# Altium footprint library syhaunguyen.PcbLib: 329 footprints (part 16 of 21)
Each footprint in its own frame and in the unit in brackets; x right, y up, seen from the top. Pads: shape width x height; smd on the part's side, far side on the other; paste and mask are expansions set on the pad; w line width, h text height; cw(c..) or ccw(c..) is an arc to the next point about the centre after c.
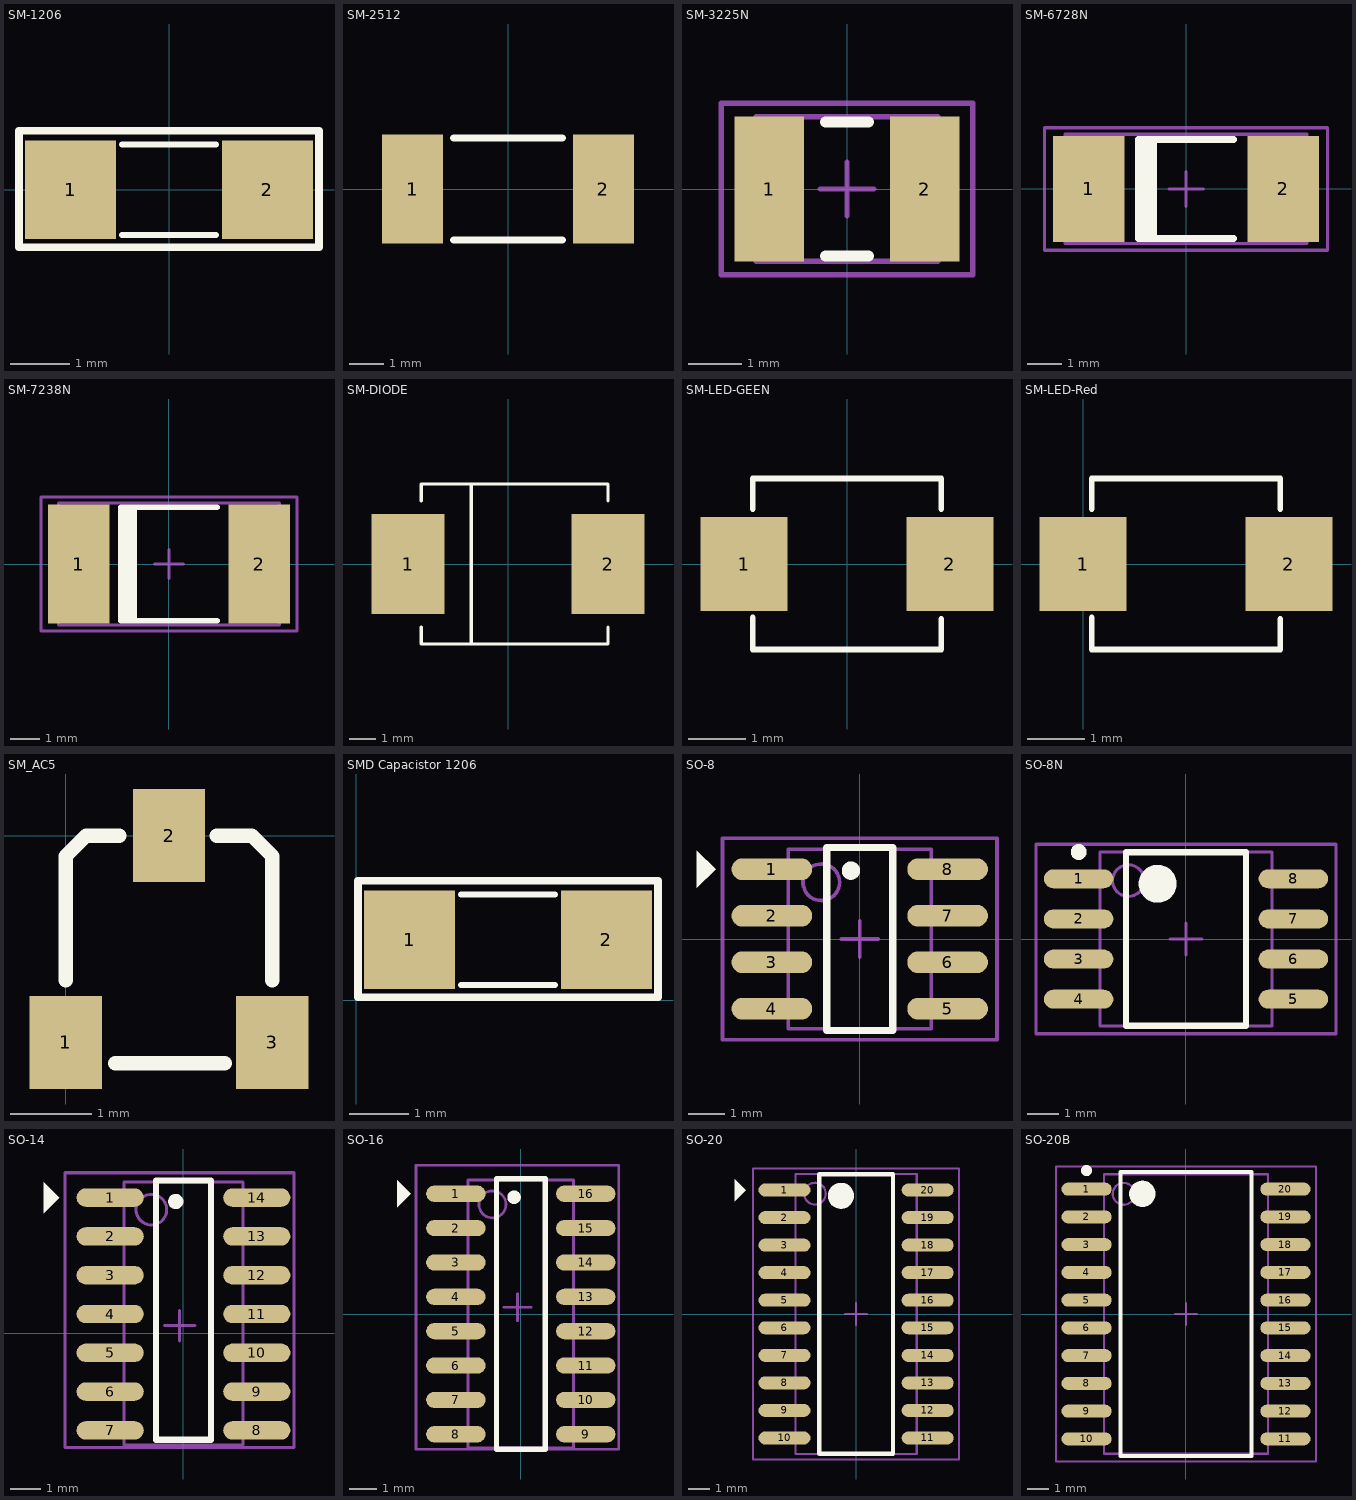
[diagram p15: the footprints below, top view; thin cyan lines are the x and y axes]

## SM-1206 [mil] "Compoment SMD 120x60mil"
height 50
pads (2):
  rect 60x65 smd: 1(-65,0) 2(65,0)
Top Overlay:
  lines w4: -31,-30 31,-30 ; -31,30 31,30
  lines w5: -99,-38 -99,39 99,39 99,-38 -99,-38
3D body: height 24.79, standoff 0, extent -82.68,-35 82.68,35.87

## SM-2512 [mm] "Chip Resistor; Body 6.3 x 3.2 mm (LxW typ) - C"
height 0.6
pads (2):
  rect 1.8x3.2 smd: 1(-2.8,0) 2(2.8,0)
Top Overlay:
  lines w0.2: -1.6,-1.5 1.6,-1.5 ; -1.6,1.5 1.6,1.5

## SM-3225N [mm] "Chip Capacitor, Body 3.2x2.5mm, IPC Medium Density"
height 1.35
pads (2):
  rect 1.3x2.7 smd: 1(-1.45,0) 2(1.45,0)
Top Overlay:
  lines w0.2: -0.4,-1.25 0.4,-1.25 ; -0.4,1.25 0.4,1.25
Mechanical 13:
  lines w0.1: -1.7,-1.35 -1.7,1.35 1.7,1.35 1.7,-1.35 -1.7,-1.35
Mechanical 15:
  lines w0.1: -0.5,0 0.5,0 ; 0,-0.5 0,0.5 ; -2.35,-1.6 -2.35,1.6 2.35,1.6 2.35,-1.6 -2.35,-1.6
3D body: height 1.35, standoff 0, extent -1.7,-1.35 1.7,1.35

## SM-6728N [mm] "Chip Capacitor, Body 6.7x2.8mm, IPC Medium Density"
height 3.18
pads (2):
  rect 2.1x3.1 smd: 1(-2.85,0) 2(2.85,0)
Top Overlay:
  rectangle: -1.4,-1.45 -0.85,1.45
  lines w0.2: 1.4,-1.45 -1.4,-1.45 -1.4,1.45 1.4,1.45
Mechanical 13:
  lines w0.1: -3.55,-1.6 -3.55,1.6 3.55,1.6 3.55,-1.6 -3.55,-1.6
Mechanical 15:
  lines w0.1: -0.5,0 0.5,0 ; 0,-0.5 0,0.5 ; -4.15,-1.8 -4.15,1.8 4.15,1.8 4.15,-1.8 -4.15,-1.8
3D body: height 3.18, standoff 0, extent -3.55,-1.6 3.55,1.6

## SM-7238N [mm] "Chip Capacitor, Body 7.2x3.8mm, IPC Medium Density"
height 3.18
pads (2):
  rect 2.1x4.1 smd: 1(-3.1,0) 2(3.1,0)
Top Overlay:
  rectangle: -1.65,-1.95 -1.1,1.95
  lines w0.2: 1.65,-1.95 -1.65,-1.95 -1.65,1.95 1.65,1.95
Mechanical 13:
  lines w0.1: -3.8,-2.1 3.8,-2.1 3.8,2.1 -3.8,2.1 -3.8,-2.1
Mechanical 15:
  lines w0.1: -0.5,0 0.5,0 ; 0,-0.5 0,0.5 ; -4.4,-2.3 4.4,-2.3 4.4,2.3 -4.4,2.3 -4.4,-2.3
3D body: height 3.18, standoff 0, extent -3.8,-2.1 3.8,2.1

## SM-DIODE [mil] "Magnetic-Core Inductor with Winding Polarity Marking; 2 Leads"
pads (2):
  rect 110x150 smd: 1(-150,0) 2(150,0)
Top Overlay:
  lines w5: -130,-95 -130,-120 150,-120 150,-95 ; -130,95 -130,120 150,120 150,95 ; -55,-120 -55,120
Mechanical 1:
  lines w1: -130,-120 150,-120 ; -130,120 150,120
3D body: height 96.27, standoff 0.6, extent -103.33,-72.86 105.33,68.87

## SM-LED-GEEN [mil] "Compoment SMD 120x60mil"
height 50
pads (2):
  rect 60x65 smd: 1(-71,0) 2(71,0)
Top Overlay:
  lines w4: -65,-37 -65,-59 65,-59 65,-38 ; -65,38 -65,59 65,59 65,38
3D body: height 43.81, standoff -15.9, extent -63,-32 63,31

## SM-LED-Red [mil]
pads (2):
  rect 60x65 smd: 1(0,0) 2(142,0)
Top Overlay:
  lines w4: 6,-37 6,-59 136,-59 136,-38 ; 6,38 6,59 136,59 136,38
3D body: height 43.81, standoff -15.9, extent 10,-32 136,31

## SM_AC5 [mil]
pads (3):
  rect 35x45 smd: 1(0,-100) 2(50,0) 3(100,-100)
Top Overlay:
  lines w7: 0,-70 0,-10 10,0 26,0 ; 24,-110 77,-110 ; 73,0 90,0 100,-10 100,-70

## SMD Capacistor 1206 [mil]
pads (2):
  rect 60x65 smd: 1(35,40) 2(165,40)
Top Overlay:
  lines w4: 69,10 131,10 ; 69,70 131,70
  lines w5: 1,2 199,2 199,79 1,79 1,2
3D body: height 24.02, standoff -0.39, extent 60.24,15 139.76,65

## SO-8 [mm] "8-Pin Small Outline Integrated Circuit 1.27 mm Pitch, IPC Medium Density"
height 1.75
pads (8):
  oval 2.2x0.6 smd: 1(-2.4,1.905) 2(-2.4,0.635) 3(-2.4,-0.635) 4(-2.4,-1.905) 5(2.4,-1.905) 6(2.4,-0.635) 7(2.4,0.635) 8(2.4,1.905)
Top Overlay:
  circle w0.25: c-0.241,1.866 r0.125
  region: -4.445,1.397 -3.937,1.905 -4.445,2.413
  lines w0.2: -0.9,-2.5 0.9,-2.5 0.9,2.5 -0.9,2.5 -0.9,-2.5
Mechanical 13:
  circle w0.1: c-1.05,1.55 r0.5
  lines w0.1: -1.95,-2.45 1.95,-2.45 1.95,2.45 -1.95,2.45 -1.95,-2.45
Mechanical 15:
  lines w0.1: -0.5,0 0.5,0 ; 0,-0.5 0,0.5 ; -3.75,-2.75 3.75,-2.75 3.75,2.75 -3.75,2.75 -3.75,-2.75
3D body: height 1.6, standoff 0, extent -2.894,-2.434 3.148,2.586

## SO-8N [mm] "SOP, 8-Leads, Body 5.3x5.3mm, Pitch 1.27mm, IPC Medium Density"
height 2.03
pads (8):
  oval 2.2x0.6 smd: 1(-3.4,1.905) 2(-3.4,0.635) 3(-3.4,-0.635) 4(-3.4,-1.905) 5(3.4,-1.905) 6(3.4,-0.635) 7(3.4,0.635) 8(3.4,1.905)
Top Overlay:
  circle w0.25: c-3.4,2.755 r0.125
  circle w0.6: c-0.9,1.75 r0.3
  lines w0.2: -1.9,-2.75 -1.9,2.75 1.9,2.75 1.9,-2.75 -1.9,-2.75
Mechanical 13:
  circle w0.1: c-1.825,1.85 r0.5
  lines w0.1: -2.725,-2.75 -2.725,2.75 2.725,2.75 2.725,-2.75 -2.725,-2.75
Mechanical 15:
  lines w0.1: -0.5,0 0.5,0 ; 0,-0.5 0,0.5 ; -4.75,-3 -4.75,3 4.75,3 4.75,-3 -4.75,-3
3D body: height 1.6, standoff 0, extent -3.046,-2.535 2.996,2.485

## SO-14 [mm] "SOIC, 14-Leads, Body 9.9x3.9mm, Pitch 1.27mm, IPC Medium Density"
height 1.75
pads (14):
  oval 2.2x0.6 smd: 1(-2.4,4.445) 2(-2.4,3.175) 3(-2.4,1.905) 4(-2.4,0.635) 5(-2.4,-0.635) 6(-2.4,-1.905) 7(-2.4,-3.175) 8(2.4,-3.175) 9(2.4,-1.905) 10(2.4,-0.635) 11(2.4,0.635) 12(2.4,1.905) 13(2.4,3.175) 14(2.4,4.445)
Top Overlay:
  circle w0.25: c-0.252,4.318 r0.125
  region: -4.572,3.937 -4.064,4.445 -4.572,4.953
  lines w0.2: -0.9,-3.48 -0.9,5 0.9,5 0.9,-3.48 -0.9,-3.48
Mechanical 13:
  circle w0.1: c-1.05,4.05 r0.5
  lines w0.1: -1.95,-3.658 -1.95,4.95 1.95,4.95 1.95,-3.658 -1.95,-3.658
Mechanical 15:
  lines w0.1: -0.627,0.254 0.373,0.254 ; -0.127,-0.246 -0.127,0.754 ; -3.877,-3.734 -3.877,5.258 3.623,5.258 3.623,-3.734 -3.877,-3.734
3D body: height 1.1, standoff 0, extent -3.708,-4.474 3.592,5.726

## SO-16 [mm] "SOIC, 16-Leads, Body 9.9x3.9mm, Pitch 1.27mm, IPC Medium Density"
height 1.75
pads (16):
  oval 2.2x0.6 smd: 1(-2.4,4.445) 2(-2.4,3.175) 3(-2.4,1.905) 4(-2.4,0.635) 5(-2.4,-0.635) 6(-2.4,-1.905) 7(-2.4,-3.175) 8(-2.4,-4.445) 9(2.4,-4.445) 10(2.4,-3.175) 11(2.4,-1.905) 12(2.4,-0.635) 13(2.4,0.635) 14(2.4,1.905) 15(2.4,3.175) 16(2.4,4.445)
Top Overlay:
  circle w0.25: c-0.252,4.318 r0.125
  region: -4.572,3.937 -4.064,4.445 -4.572,4.953
  lines w0.2: -0.9,-5 0.9,-5 0.9,5 -0.9,5 -0.9,-5
Mechanical 13:
  circle w0.1: c-1.05,4.05 r0.5
  lines w0.1: -1.95,-4.95 1.95,-4.95 1.95,4.95 -1.95,4.95 -1.95,-4.95
Mechanical 15:
  lines w0.1: -0.627,0.254 0.373,0.254 ; -0.127,-0.246 -0.127,0.754 ; -3.877,-4.996 3.623,-4.996 3.623,5.504 -3.877,5.504 -3.877,-4.996

## SO-20 [mm] "20-Pin Small Outline Package 1.27 mm Pitch"
height 2
pads (20):
  oval 2.4x0.6 smd: 1(-3.3,5.715) 2(-3.3,4.445) 3(-3.3,3.175) 4(-3.3,1.905) 5(-3.3,0.635) 6(-3.3,-0.635) 7(-3.3,-1.905) 8(-3.3,-3.175) 9(-3.3,-4.445) 10(-3.3,-5.715) 11(3.3,-5.715) 12(3.3,-4.445) 13(3.3,-3.175) 14(3.3,-1.905) 15(3.3,-0.635) 16(3.3,0.635) 17(3.3,1.905) 18(3.3,3.175) 19(3.3,4.445) 20(3.3,5.715)
Top Overlay:
  circle w0.6: c-0.7,5.45 r0.3
  region: -5.588,5.207 -5.08,5.715 -5.588,6.223
  lines w0.2: -1.7,-6.45 -1.7,6.45 1.7,6.45 1.7,-6.45 -1.7,-6.45
Mechanical 13:
  circle w0.1: c-1.9,5.55 r0.5
  lines w0.1: -2.8,-6.45 -2.8,6.45 2.8,6.45 2.8,-6.45 -2.8,-6.45
Mechanical 15:
  lines w0.1: -0.5,0 0.5,0 ; 0,-0.5 0,0.5 ; -4.75,-6.7 -4.75,6.7 4.75,6.7 4.75,-6.7 -4.75,-6.7
3D body: height 1.95, standoff -0.05, extent -4.024,-6.325 4.076,6.375

## SO-20B [mm] "SOIC, 20-Leads, Body 12.8x7.5mm, Pitch 1.27mm, IPC Medium Density"
height 2.6
pads (20):
  oval 2.3x0.6 smd: 1(-4.55,5.715) 2(-4.55,4.445) 3(-4.55,3.175) 4(-4.55,1.905) 5(-4.55,0.635) 6(-4.55,-0.635) 7(-4.55,-1.905) 8(-4.55,-3.175) 9(-4.55,-4.445) 10(-4.55,-5.715) 11(4.55,-5.715) 12(4.55,-4.445) 13(4.55,-3.175) 14(4.55,-1.905) 15(4.55,-0.635) 16(4.55,0.635) 17(4.55,1.905) 18(4.55,3.175) 19(4.55,4.445) 20(4.55,5.715)
Top Overlay:
  circle w0.6: c-2,5.5 r0.3
  circle w0.25: c-4.55,6.565 r0.125
  lines w0.2: -3,-6.5 3,-6.5 3,6.5 -3,6.5 -3,-6.5
Mechanical 13:
  circle w0.1: c-2.85,5.5 r0.5
  lines w0.1: -3.75,-6.4 3.75,-6.4 3.75,6.4 -3.75,6.4 -3.75,-6.4
Mechanical 15:
  lines w0.1: -0.5,0 0.5,0 ; 0,-0.5 0,0.5 ; -5.95,-6.75 5.95,-6.75 5.95,6.75 -5.95,6.75 -5.95,-6.75
3D body: height 1.95, standoff -0.05, extent -4.101,-6.325 3.999,6.375